# EAGLE library part SERVOCONNECTOR_X6 (library con-special_purpose)
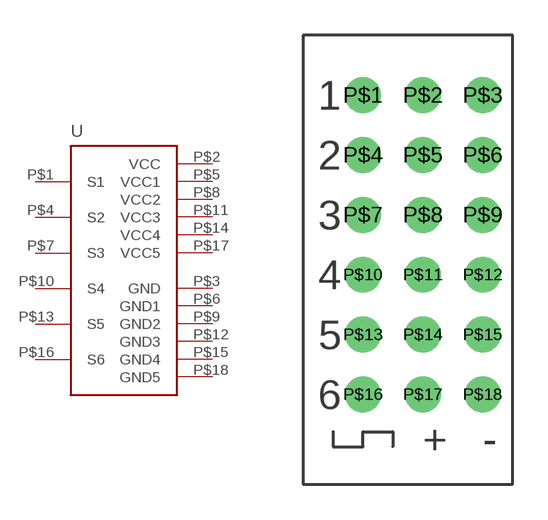
[diagram p1: symbol with the pads of HEADER3X6; footprint HEADER3X6]

Designator prefix -

## SERVOCONNECTOR_X6 (PLACE_PART: YES)  [HEADER3X6]
P$1  S1
P$2  VCC  pwr
P$3  GND  pwr
P$4  S2
P$5  VCC1  pwr
P$6  GND1  pwr
P$7  S3
P$8  VCC2  pwr
P$9  GND2  pwr
P$10  S4
P$11  VCC3  pwr
P$12  GND3  pwr
P$13  S5
P$14  VCC4  pwr
P$15  GND4  pwr
P$16  S6
P$17  VCC5  pwr
P$18  GND5  pwr

## Footprint HEADER3X6 (pad centres in mm)
drill 1.016: P$1 -2.54,7.62; P$2 0,7.62; P$3 2.54,7.62; P$4 -2.54,5.08; P$5 0,5.08; P$6 2.54,5.08; P$7 -2.54,2.54; P$8 0,2.54; P$9 2.54,2.54; P$10 -2.54,0; P$11 0,0; P$12 2.54,0; P$13 -2.54,-2.54; P$14 0,-2.54; P$15 2.54,-2.54; P$16 -2.54,-5.08; P$17 0,-5.08; P$18 2.54,-5.08